# Altium footprint library diods.PcbLib: 43 footprints (part 1 of 3)
Each footprint in its own frame and in the unit in brackets; x right, y up, seen from the top. Pads: shape width x height; smd on the part's side, far side on the other; paste and mask are expansions set on the pad; w line width, h text height; cw(c..) or ccw(c..) is an arc to the next point about the centre after c.
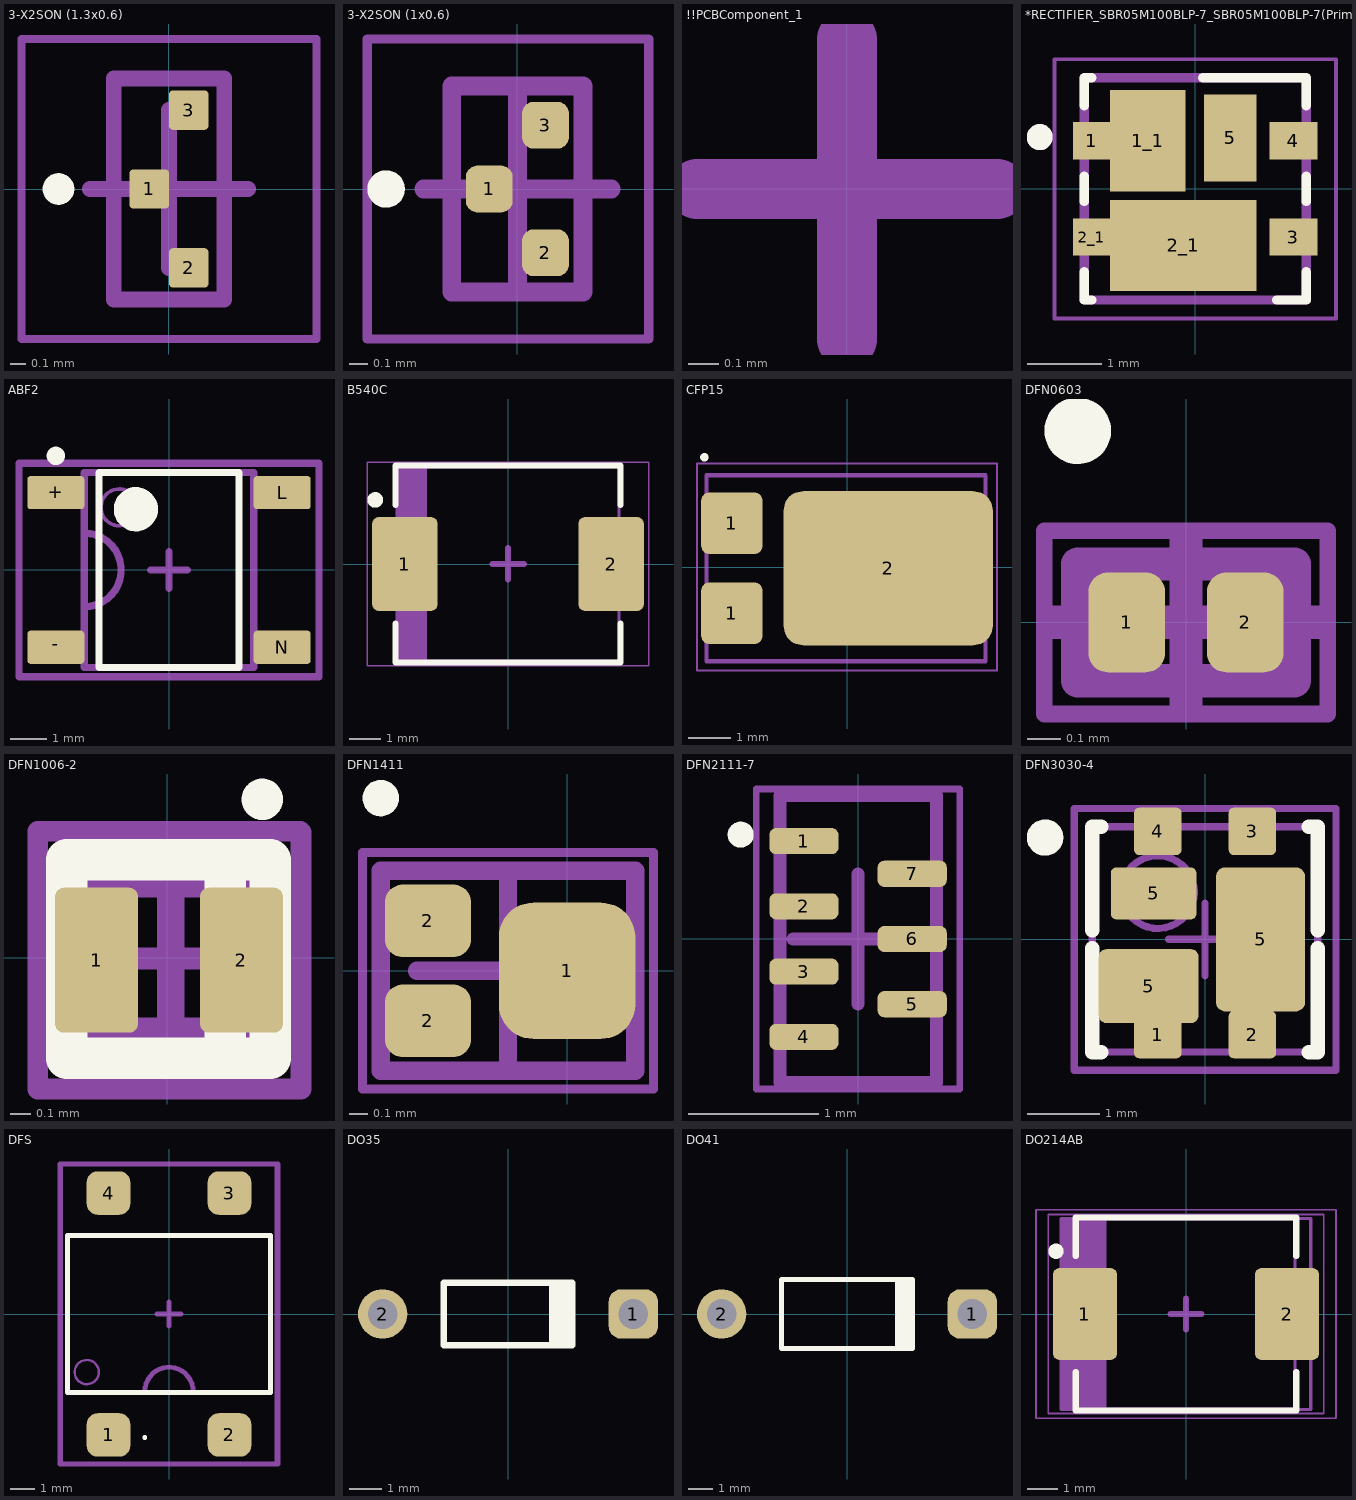
[diagram p0: the footprints below, top view; thin cyan lines are the x and y axes]

## 3-X2SON (1.3x0.6) [mm] "3-X2SON (1.3x0.6),  IPC Medium Density"
height 0.4
pads (3):
  rrect20% 0.25x0.25 smd: 1(-0.125,0) 2(0.125,-0.5) 3(0.125,0.5)
Top Overlay:
  circle w0.1: c-0.7,0 r0.05
Mechanical 13:
  lines w0.1: -0.35,-0.7 0.35,-0.7 0.35,0.7 -0.35,0.7 -0.35,-0.7
Mechanical 15:
  lines w0.05: -0.935,-0.95 0.935,-0.95 0.935,0.95 -0.935,0.95 -0.935,-0.95
  lines w0.1: -0.5,0 0.5,0 ; 0,-0.5 0,0.5
3D body "DMY0003A.step": height 0.4, standoff 0, extent -0.351,-0.7 0.351,0.7

## 3-X2SON (1x0.6) [mm] "3-X2SON (1.3x0.6),  IPC Medium Density"
height 0.4
pads (3):
  rrect50% 0.25x0.25 smd: 1(-0.15,0) 2(0.15,-0.34) 3(0.15,0.34)
Top Overlay:
  circle w0.1: c-0.7,0 r0.05
Mechanical 13:
  lines w0.1: -0.35,-0.55 -0.35,0.55 0.35,0.55 0.35,-0.55 -0.35,-0.55
Mechanical 15:
  lines w0.05: -0.8,-0.8 -0.8,0.8 0.7,0.8 0.7,-0.8 -0.8,-0.8
  lines w0.1: -0.5,0 0.5,0 ; 0,-0.5 0,0.5
3D body: height 0.4, standoff 0, extent -0.35,-0.55 0.35,0.55

## !!PCBComponent_1 [mm]
M3_comm_top:
  text ".comment" at -0.9,-0.3 h1
M5_asm_top:
  text ".Designator" at -1,1.3 h1
M7_courtyard_top:
  lines w0.2: -0.5,0 0.5,0 ; 0,-0.5 0,0.5

## *RECTIFIER_SBR05M100BLP-7_SBR05M100BLP-7(Primary) [mm]
pads (7):
  rect 0.5x0.5 smd: 1(-1.4,0.65) 2_1(-1.4,-0.65)
  rect 1.015x1.375 smd: 1_1(-0.643,0.65)
  rect 1.98x1.225 smd: 2_1(-0.16,-0.763)
  rect 0.65x0.5 smd: 3(1.325,-0.65) 4(1.325,0.65)
  rect 0.715x1.175 smd: 5(0.473,0.687)
Top Overlay:
  circle w0.25: c-2.1,0.7 r0.05
  lines w0.127: -1.5,-1.12 -1.5,-1.5 -1.4,-1.5 ; -1.5,-0.17 -1.5,0.17 ; -1.5,1.12 -1.5,1.5 -1.4,1.5 ; 0.1,1.5 1.5,1.5 1.5,1.12 ; 1.1,-1.5 1.5,-1.5 1.5,-1.12 ; 1.5,-0.17 1.5,0.17
M4_comm_bot:
  circle w0.25: c-2.1,0.7 r0.05
  circle w0.25: c-2.1,0.7 r0.05
  lines w0.127: -1.5,-1.5 1.5,-1.5 ; -1.5,-1.5 -1.5,1.5 ; -1.5,-1.5 1.5,-1.5 ; -1.5,-1.5 -1.5,1.5 ; -1.5,1.5 1.5,1.5 ; -1.5,1.5 1.5,1.5 ; 1.5,-1.5 1.5,1.5 ; 1.5,-1.5 1.5,1.5
Mechanical 16:
  lines w0.05: -1.9,-1.75 1.9,-1.75 1.9,1.75 -1.9,1.75 -1.9,-1.75

## ABF2 [mm] "ABF2U to  ABF10U"
height 1.3
pads (4):
  rrect20% 1.55x0.9 smd: +(-3.075,2.1) -(-3.075,-2.1) L(3.075,2.1) N(3.075,-2.1)
Top Overlay:
  circle w0.6: c-0.9,1.65 r0.3
  circle w0.25: c-3.075,3.1 r0.125
  lines w0.2: -1.9,-2.65 1.9,-2.65 1.9,2.65 -1.9,2.65 -1.9,-2.65
M3_comm_top:
  text ".comment" at -0.9,-0.3 h1
M5_asm_top:
  circle w0.1: c-1.35,1.7 r0.5
  lines w0.2: -2.3,-1 ccw(c-2.3,0) -2.3,1 ; -2.3,-2.65 2.3,-2.65 2.3,2.65 -2.3,2.65 -2.3,-2.65
  text "-" at -3.3,-1.6 h1.52
  text "+" at -3.5,0.6 h1.52
  text "~" at 2.8,0.8 h1.52
  text "~" at 2.8,-1.7 h1.52
  text ".Designator" at -1,1.3 h1
M7_courtyard_top:
  lines w0.1: -0.5,0 0.5,0 ; 0,-0.5 0,0.5
  lines w0.2: -0.5,0 0.5,0 ; 0,-0.5 0,0.5 ; -4.075,-2.9 4.075,-2.9 4.075,2.9 -4.075,2.9 -4.075,-2.9
3D body "ABF2.step": height 1.3, standoff 0, extent -3.4,-2.65 3.4,2.65

## B540C [mm]
height 2.5
pads (2):
  rrect20% 2.1x3 smd: 1(-3.3,0) 2(3.3,0)
Top Overlay:
  circle w0.25: c-4.25,2.05 r0.125
  lines w0.2: -3.6,-1.9 -3.6,-3.15 3.6,-3.15 3.6,-1.9 ; -3.6,1.9 -3.6,3.15 3.6,3.15 3.6,1.9
M3_comm_top:
  text ".comment" at -0.9,-0.3 h1
M5_asm_top:
  rectangle: -3.555,-3.11 -2.599,3.11
  lines w0.1: -3.555,-3.11 -3.555,3.11 3.555,3.11 3.555,-3.11 -3.555,-3.11
  text ".Designator" at -1,1.3 h1
M7_courtyard_top:
  lines w0.05: -4.5,-3.25 -4.5,3.25 4.5,3.25 4.5,-3.25 -4.5,-3.25
  lines w0.2: -0.5,0 0.5,0 ; 0,-0.5 0,0.5
Mechanical 15:
  lines w0.1: -0.5,0 0.5,0 ; 0,-0.5 0,0.5
3D body "DO214AB.step": height 2.45, standoff 0, extent -4.295,-3.125 4.295,3.125

## CFP15 [mm] "TO277A, IPC Medium Density"
height 0.82
pads (3):
  rrect25% 1.45x1.45 smd: 1(-2.725,-1.09) 1(-2.725,1.04)
  rrect25% 4.95x3.65 smd: 2(0.975,-0.025)
Top Overlay:
  circle w0.1: c-3.375,2.6 r0.05
Mechanical 13:
  lines w0.1: -3.325,-2.225 -3.325,2.175 3.275,2.175 3.275,-2.225 -3.325,-2.225
Mechanical 15:
  lines w0.05: -3.55,-2.45 -3.55,2.45 3.55,2.45 3.55,-2.45 -3.55,-2.45
  lines w0.1: -0.5,0 0.5,0 ; 0,-0.5 0,0.5
3D body "TO-277A.step": height 1.2, standoff 0, extent -3.325,-2.4 3.325,2.35

## DFN0603 [mm] "0201, IPC High Density"
height 0.35
pads (2):
  rrect50% 0.23x0.3 smd: 1(-0.178,0) 2(0.178,0)
Top Overlay:
  circle w0.1: c-0.325,0.575 r0.05
Mechanical 13:
  lines w0.1: -0.325,-0.175 0.325,-0.175 0.325,0.175 -0.325,0.175 -0.325,-0.175
Mechanical 15:
  lines w0.05: -0.425,-0.275 0.425,-0.275 0.425,0.275 -0.425,0.275 -0.425,-0.275
  lines w0.1: -0.4,0 0.4,0 ; 0,-0.25 0,0.25
3D body: height 0.35, standoff 0.03, extent -0.325,-0.175 0.325,0.175

## DFN1006-2 [mm] "DFN, 2-Leads, IPC High Density"
height 0.53
pads (2):
  rrect20% 0.4x0.7 smd mask+0.025: 1(-0.343,-0.012) 2(0.357,-0.012)
Top Overlay:
  circle w0.1: c0.458,0.765 r0.05
  lines w0.2: 0.278,-0.468 0.278,0.464 ; -0.487,-0.487 -0.487,0.473 0.496,0.473 0.496,-0.487 -0.487,-0.487
M3_comm_top:
  text ".comment" at -0.707,-0.297 h1
M5_asm_top:
  lines w0.1: 0.273,-0.471 0.273,0.471 ; 0.513,-0.48 -0.504,-0.48 -0.504,0.487 0.513,0.487 0.518,0.482 0.518,-0.474
  text ".Designator" at -0.575,0.8 h1
M7_courtyard_top:
  lines w0.1: -0.469,-0.008 0.531,-0.008 ; 0.031,-0.508 0.031,0.492 ; -0.626,-0.635 -0.626,0.61 0.64,0.61 0.645,0.605 0.645,-0.635 -0.626,-0.635
Mechanical 13:
  lines w0.1: -0.54,-0.34 -0.54,0.34 0.54,0.34 0.54,-0.34 -0.54,-0.34
Mechanical 15:
  lines w0.05: -0.64,-0.44 -0.64,0.44 0.64,0.44 0.64,-0.44 -0.64,-0.44
  lines w0.1: -0.5,0 0.5,0 ; 0,-0.5 0,0.5
3D body "User Library-SOD882.step": height 0.49, standoff -0.01, extent -0.511,-0.311 0.511,0.311

## DFN1411 [mm] "DFN, 3-Leads, Body 1,10x1,40mm, Pitch 0,76mm, IPC High Density"
height 0.53
pads (3):
  rrect50% 0.75x0.75 smd: 1(0,0)
  rrect50% 0.475x0.4 smd: 2(-0.765,-0.275) 2(-0.765,0.275)
Top Overlay:
  circle w0.1: c-1.025,0.95 r0.05
Mechanical 13:
  lines w0.1: -1.025,-0.55 0.375,-0.55 0.375,0.55 -1.025,0.55 -1.025,-0.55
Mechanical 15:
  lines w0.05: -1.125,-0.65 0.475,-0.65 0.475,0.65 -1.125,0.65 -1.125,-0.65
  lines w0.1: -0.825,0 0.175,0 ; -0.325,-0.5 -0.325,0.5

## DFN2111-7 [mm] "SOT1358-1"
height 0.53
pads (7):
  rrect50% 0.53x0.2 smd: 1(-0.415,0.75) 2(-0.415,0.25) 3(-0.415,-0.25) 4(-0.415,-0.75) 5(0.415,-0.5) 6(0.415,0) 7(0.415,0.5)
Top Overlay:
  circle w0.1: c-0.9,0.8 r0.05
Mechanical 13:
  lines w0.1: -0.6,-1.1 -0.6,1.1 0.6,1.1 0.6,-1.1 -0.6,-1.1
Mechanical 15:
  lines w0.05: -0.78,-1.15 -0.78,1.15 0.78,1.15 0.78,-1.15 -0.78,-1.15
  lines w0.1: -0.5,0 0.5,0 ; 0,-0.5 0,0.5
3D body: height 0.5, standoff 0.01, extent -0.6,-1.1 0.6,1.1

## DFN3030-4 [mm] "SBR05M100BLP-7, PQFN, 4-Leads, Body 3,00x3,00mm, Pitch 1,30mm, Thermal Pad 1,98x1,98mm, IPC Medium Density"
height 0.63
pads (7):
  rrect20% 0.65x0.65 smd: 1(-0.65,-1.31) 2(0.65,-1.31) 3(0.65,1.485) 4(-0.65,1.485)
  rrect20% 1.375x1.015 smd: 5(-0.775,-0.643)
  rrect20% 1.175x0.715 smd: 5(-0.708,0.632)
  rrect20% 1.225x1.98 smd: 5(0.762,0)
Top Overlay:
  circle w0.25: c-2.2,1.4 r0.125
  lines w0.2: -1.55,-0.125 -1.55,-1.55 -1.425,-1.55 ; -1.55,0.125 -1.55,1.55 -1.425,1.55 ; 1.425,-1.55 1.55,-1.55 1.55,-0.125 ; 1.425,1.55 1.55,1.55 1.55,0.125
M5_asm_top:
  circle w0.1: c-0.65,0.65 r0.5
  lines w0.1: -1.55,-1.55 1.55,-1.55 1.55,1.55 -1.55,1.55 -1.55,-1.55
M7_courtyard_top:
  lines w0.1: -0.5,0 0.5,0 ; 0,-0.5 0,0.5 ; -1.8,-1.8 1.8,-1.8 1.8,1.8 -1.8,1.8 -1.8,-1.8
3D body "DFN3030-4.step": height 0.63, standoff 0, extent -1.55,-1.55 1.55,1.55

## DFS [mm] "DFN, 3-Leads, Body 1,10x1,40mm, Pitch 0,76mm, IPC High Density"
height 0.53
pads (4):
  rrect50% 1.8x1.8 smd: 1(-2.5,-5) 2(2.5,-5) 3(2.5,5) 4(-2.5,5)
Top Overlay:
  circle w0.1: c-1,-5.1 r0.05
  lines w0.2: -4.2,-3.25 -4.2,3.25 4.2,3.25 4.2,-3.25 -4.2,-3.25
M3_comm_top:
  text ".comment" at 0.3,-0.9 h1
M5_asm_top:
  circle w0.1: c-3.4,-2.4 r0.5
  lines w0.2: -1,-3.2 cw(c0,-3.2) 1,-3.2 ; -4.2,-3.25 4.2,-3.25 4.2,3.25 -4.2,3.25 -4.2,-3.25
  text ".Designator" at -1.3,-1 h1
  text "~" at 1.7,4.6 h1.52
  text "~" at -0.8,4.6 h1.52
  text "+" at -0.6,-4.4 h1.52
  text "-" at 1.6,-4.2 h1.52
M7_courtyard_top:
  lines w0.2: -0.5,0 0.5,0 ; 0,-0.5 0,0.5 ; -4.5,-6.2 4.5,-6.2 4.5,6.2 -4.5,6.2 -4.5,-6.2
Mechanical 13:
  lines w0.1: -4.2,-3.25 -4.2,3.25 4.2,3.25 4.2,-3.25 -4.2,-3.25
Mechanical 15:
  lines w0.05: -4.4,-6.2 -4.4,6.2 4.4,6.2 4.4,-6.2 -4.4,-6.2
  lines w0.1: -0.5,0 0.5,0 ; 0,-0.5 0,0.5
3D body "DFS.STEP": height 2.61, standoff 0.02, extent -4.1,-5.15 4.1,5.15

## DO35 [mm] "Diode, Axial; Body 3.8 x 1.9 mm (LxDia. max), Lead Dia. 0.53 mm (max)"
height 1.9
pads (2):
  rrect50% 1.5x1.5 hole 0.9: 1(3.81,0)
  round 1.5 hole 0.9: 2(-3.81,0)
Top Overlay:
  rectangle: 1.25,-0.95 2.05,0.95
  lines w0.2: 1.95,-0.95 -1.95,-0.95 -1.95,0.95 1.95,0.95
3D body "DO-35.step": height 2.23, standoff -2.18, extent -4.09,-0.96 4.09,0.96

## DO41 [mm] "Diode, Axial; Body 5.2 x 2.7 mm (LxDia. max), Lead Dia. 0.86 mm (max)"
height 2.8
pads (2):
  rrect50% 2x2 hole 1.2: 1(5.08,0)
  round 2 hole 1.2: 2(-5.08,0)
Top Overlay:
  rectangle: 1.95,-1.4 2.75,1.4
  lines w0.2: 2.65,-1.4 -2.65,-1.4 -2.65,1.4 2.65,1.4
3D body "DO-41G-40Y.step": height 2.52, standoff -2, extent -5.47,-1.201 5.47,1.201

## DO214AB [mm] "VS-30BQ100-M3/9AT , DO214AB, IPC Medium Density"
height 2.45
pads (2):
  rrect20% 2.1x3 smd: 1(-3.3,0) 2(3.3,0)
Top Overlay:
  circle w0.25: c-4.25,2.05 r0.125
  lines w0.2: -3.6,-1.9 -3.6,-3.15 3.6,-3.15 3.6,-1.9 ; -3.6,1.9 -3.6,3.15 3.6,3.15 3.6,1.9
M3_comm_top:
  text ".comment" at -0.9,-0.3 h1
M5_asm_top:
  rectangle: -3.555,-3.11 -2.599,3.11
  lines w0.1: -3.555,-3.11 -3.555,3.11 3.555,3.11 3.555,-3.11 -3.555,-3.11
  text ".Designator" at -1,1.3 h1
M7_courtyard_top:
  lines w0.05: -4.5,-3.25 -4.5,3.25 4.5,3.25 4.5,-3.25 -4.5,-3.25
  lines w0.2: -0.5,0 0.5,0 ; 0,-0.5 0,0.5
Mechanical 13:
  rectangle: -4.075,-3.125 -2.979,3.125
  lines w0.1: -4.075,-3.125 -4.075,3.125 4.075,3.125 4.075,-3.125 -4.075,-3.125
Mechanical 15:
  lines w0.05: -4.9,-3.4 -4.9,3.4 4.9,3.4 4.9,-3.4 -4.9,-3.4
  lines w0.1: -0.5,0 0.5,0 ; 0,-0.5 0,0.5
3D body "DO214AB.step": height 2.45, standoff 0, extent -4.295,-3.125 4.295,3.125